# Altium schematic symbol library general_rcl.SchLib: 11 symbols
Pins are listed as number, name and electrical type; pins without a type are passive.

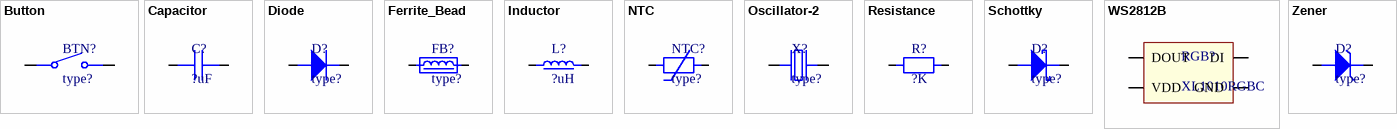
[diagram p0: symbols Button to Zener]

## Button
designator BTN?, comment type?
pins: 1, 2

## Capacitor
designator C?, comment ?uF
footprint C1210
footprint C1206
footprint C0805
footprint C0603
footprint C0402
footprint C0201
pins: 1, 2

## Diode
designator D?, comment type?
footprint SOD523 (Diode, Small Outline Diode Flat Lead (SODFL); 1.20 mm L X 0.80 mm W X 0.70 mm H body)
footprint SOD323 (Diode, Small Outline Diode (SOD); 1.70 mm L X 1.30 mm W X 1.10 mm H body)
footprint SOD123 (Diode, Small Outline Diode (SOD); 2.70 mm L X 1.60 mm W X 1.35 mm H body)
pins: 1, 2

## Ferrite_Bead
designator FB?, comment type?
pins: 1, 2

## Inductor
designator L?, comment ?uH
pins: 1, 2

## NTC
designator NTC?, comment type?
pins: 1, 2

## Oscillator-2
designator X?, comment type?
pins: 1, 2

## Resistance
designator R?, comment ?K
footprint R2512
footprint R1210
footprint R1206
footprint R0805
footprint R0603
footprint R0402
footprint R0201
pins: 1, 2

## Schottky
designator D?, comment type?
footprint SOD523 (Diode, Small Outline Diode Flat Lead (SODFL); 1.20 mm L X 0.80 mm W X 0.70 mm H body)
footprint SOD323 (Diode, Small Outline Diode (SOD); 1.70 mm L X 1.30 mm W X 1.10 mm H body)
footprint SOD123 (Diode, Small Outline Diode (SOD); 2.70 mm L X 1.60 mm W X 1.35 mm H body)
pins: 1, 2

## WS2812B
designator RGB?, comment XL1010RGBC
footprint RGB4-XL1010 (Corner Concave; 1.00 mm L X 1.00 mm W X 0.90 mm H body)
pins: 1 DOUT, 2 VDD, 3 GND, 4 DI

## Zener
designator D?, comment type?
footprint SOD523 (Diode, Small Outline Diode Flat Lead (SODFL); 1.20 mm L X 0.80 mm W X 0.70 mm H body)
footprint SOD323 (Diode, Small Outline Diode (SOD); 1.70 mm L X 1.30 mm W X 1.10 mm H body)
footprint SOD123 (Diode, Small Outline Diode (SOD); 2.70 mm L X 1.60 mm W X 1.35 mm H body)
pins: 1, 2